# Altium footprint library debugger2.PcbLib: 18 footprints (part 1 of 2)
Each footprint in its own frame and in the unit in brackets; x right, y up, seen from the top. Pads: shape width x height; smd on the part's side, far side on the other; paste and mask are expansions set on the pad; w line width, h text height; cw(c..) or ccw(c..) is an arc to the next point about the centre after c.
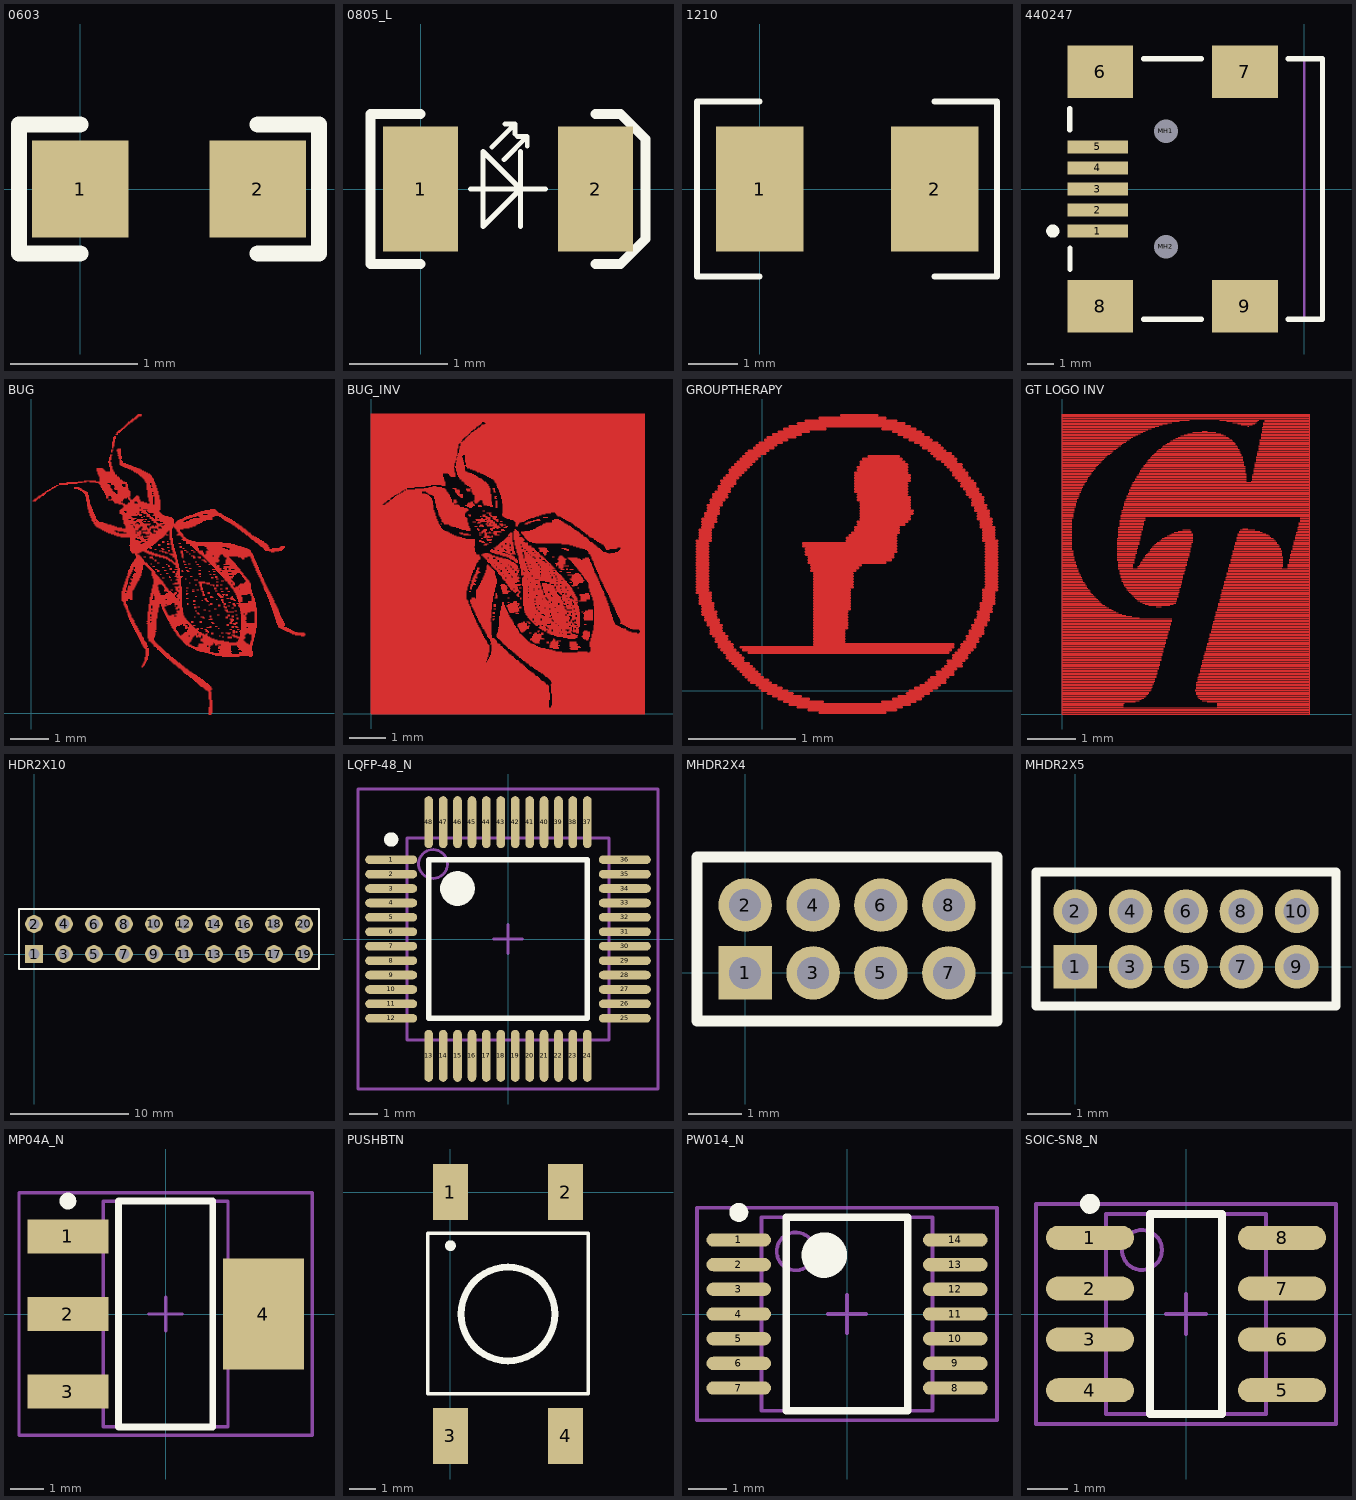
[diagram p0: the footprints below, top view; thin cyan lines are the x and y axes]

## 0603 [mil]
pads (2):
  rect 30x30 smd: 1(0,0) 2(55,0)
Top Overlay:
  lines w5: 0,-20 -19,-20 -19,20 0,20 ; 55,-20 74,-20 74,20 55,20

## 0805_L [mil]
pads (2):
  rect 30x50 smd: 1(0,0) 2(70,0)
Top Overlay:
  lines w1.97: 20,0 50,0 ; 28.54,16.73 37.76,25.95 ; 33.46,11.81 42.69,21.04 ; 33.83,25.95 37.76,25.95 ; 37.76,22.03 37.76,25.95 ; 38.76,21.04 42.69,21.04 ; 40,-15 40,0 ; 40,15 40,0 ; 42.69,17.1 42.69,21.04 ; 40,0 25,-15 25,15 40,0
  lines w4: 0,-30 -20,-30 -20,30 0,30 ; 70,-30 80,-30 ; 70,30 80,30 ; 80,-30 90,-20 ; 80,-30 90,-20 ; 80,30 90,20 ; 80,30 90,20 ; 90,-20 90,20

## 1210 [mil]
pads (2):
  rect 70x100 smd: 1(0,0) 2(140,0)
Top Overlay:
  lines w5: 0,-70 -50,-70 -50,70 0,70 ; 140,-70 190,-70 190,70 140,70

## 440247 [mm] "Connector; USB2.0, Type B, SM; 5 Position; Right Angle"
height 3.9
pads (11):
  rect 2.3x0.5 smd: 1(-7.85,-1.6) 2(-7.85,-0.8) 3(-7.85,0) 4(-7.85,0.8) 5(-7.85,1.6)
  rect 2.5x2 smd: 6(-7.75,4.45) 7(-2.25,4.45) 8(-7.75,-4.45) 9(-2.25,-4.45)
  round 0.6 hole 0.9 unplated: MH1(-5.25,2.2) MH2(-5.25,-2.2)
Top Overlay:
  circle w0.25: c-9.55,-1.6 r0.125
  lines w0.2: -8.9,-3.05 -8.9,-2.25 ; -8.9,2.25 -8.9,3.05 ; -6.1,-4.95 -3.9,-4.95 ; -6.1,4.95 -3.9,4.95 ; -0.6,-4.95 0.7,-4.95 0.7,4.95 -0.6,4.95
Mechanical 1:
  lines w0.1: 0,-4.95 0,4.95
  text "PCB Edge" at 0.432,-4.036 h0.25

## BUG [mm]
Top Layer:
  drawing of 1581 lines, arcs and shapes, not listed

## BUG_INV [mm]
Top Layer:
  drawing of 1912 lines, arcs and shapes, not listed

## GROUPTHERAPY [mm]
Top Layer:
  lines w0.025: -0.61,0.914 -0.483,0.914 ; -0.61,0.94 -0.508,0.94 ; -0.61,0.965 -0.508,0.965 ; -0.61,0.991 -0.508,0.991 ; -0.61,1.016 -0.508,1.016 ; -0.61,1.041 -0.508,1.041 ; -0.61,1.067 -0.508,1.067 ; -0.61,1.092 -0.508,1.092 ; -0.61,1.118 -0.508,1.118 ; -0.61,1.143 -0.508,1.143 ; -0.61,1.168 -0.508,1.168 ; -0.61,1.194 -0.508,1.194 ; -0.61,1.219 -0.508,1.219 ; -0.61,1.245 -0.508,1.245 ; -0.61,1.27 -0.508,1.27 ; -0.61,1.295 -0.508,1.295 ; -0.61,1.321 -0.508,1.321 ; -0.61,1.346 -0.508,1.346 ; -0.61,1.372 -0.508,1.372 ; -0.61,1.397 -0.483,1.397 ; -0.584,0.813 -0.457,0.813 ; -0.584,0.838 -0.483,0.838 ; -0.584,0.864 -0.483,0.864 ; -0.584,0.889 -0.483,0.889 ; -0.584,1.422 -0.483,1.422 ; -0.584,1.448 -0.483,1.448 ; -0.584,1.473 -0.483,1.473 ; -0.584,1.499 -0.483,1.499 ; -0.559,0.711 -0.432,0.711 ; -0.559,0.737 -0.432,0.737 ; -0.559,0.762 -0.457,0.762 ; -0.559,0.787 -0.457,0.787 ; -0.559,1.524 -0.457,1.524 ; -0.559,1.549 -0.457,1.549 ; -0.559,1.575 -0.432,1.575 ; -0.559,1.6 -0.432,1.6 ; -0.533,0.66 -0.406,0.66 ; -0.533,0.686 -0.432,0.686 ; -0.533,1.626 -0.432,1.626 ; -0.533,1.651 -0.406,1.651 ; -0.508,0.61 -0.381,0.61 ; -0.508,0.635 -0.406,0.635 ; -0.508,1.676 -0.406,1.676 ; -0.508,1.702 -0.406,1.702 ; -0.508,1.727 -0.381,1.727 ; -0.483,0.533 -0.356,0.533 ; -0.483,0.559 -0.381,0.559 ; -0.483,0.584 -0.381,0.584 ; -0.483,1.753 -0.381,1.753 ; -0.483,1.778 -0.356,1.778 ; -0.457,0.508 -0.33,0.508 ; -0.457,1.803 -0.33,1.803 ; -0.457,1.829 -0.33,1.829 ; -0.432,0.457 -0.305,0.457 ; -0.432,0.483 -0.33,0.483 ; -0.432,1.854 -0.305,1.854 ; -0.406,0.406 -0.279,0.406 ; -0.406,0.432 -0.279,0.432 ; -0.406,1.88 -0.305,1.88 ; -0.406,1.905 -0.279,1.905 ; -0.381,0.381 -0.254,0.381 ; -0.381,1.93 -0.254,1.93 ; -0.381,1.956 -0.254,1.956 ; -0.356,0.356 -0.229,0.356 ; -0.356,1.981 -0.229,1.981 ; -0.33,0.305 -0.178,0.305 ; -0.33,0.33 -0.203,0.33 ; -0.33,2.007 -0.203,2.007 ; -0.305,0.279 -0.178,0.279 ; -0.305,2.032 -0.178,2.032 ; -0.305,2.057 -0.152,2.057 ; -0.279,0.254 -0.127,0.254 ; -0.279,2.083 -0.127,2.083 ; -0.254,0.229 -0.102,0.229 ; -0.254,2.108 -0.102,2.108 ; -0.229,0.203 -0.076,0.203 ; -0.229,2.134 -0.076,2.134 ; -0.203,0.178 -0.051,0.178 ; -0.203,0.406 1.778,0.406 ; -0.203,2.159 -0.051,2.159 ; -0.178,0.152 -0.025,0.152 ; -0.178,0.381 1.753,0.381 ; -0.178,2.184 -0.025,2.184 ; -0.152,0.127 0,0.127 ; -0.152,2.21 0.025,2.21 ; -0.127,0.102 0.051,0.102 ; -0.127,0.356 1.727,0.356 ; -0.127,2.235 0.051,2.235 ; -0.102,0.076 0.076,0.076 ; -0.076,2.261 0.102,2.261 ; -0.051,0.051 0.127,0.051 ; -0.051,2.286 0.127,2.286 ; -0.025,0.025 0.178,0.025 ; -0.025,2.311 0.178,2.311 ; 0,0 0.229,0 ; 0.025,2.337 0.229,2.337 ; 0.051,-0.025 0.279,-0.025 ; 0.051,2.362 0.305,2.362 ; 0.102,-0.051 0.356,-0.051 ; 0.102,2.388 0.356,2.388 ; 0.152,-0.076 0.432,-0.076 ; 0.152,2.413 0.432,2.413 ; 0.203,-0.102 0.559,-0.102 ; 0.203,2.438 0.584,2.438 ; 0.254,-0.127 1.372,-0.127 ; 0.254,2.464 1.372,2.464 ; 0.33,-0.152 1.295,-0.152 ; 0.33,2.489 1.321,2.489 ; 0.381,1.346 1.245,1.346 ; 0.381,1.372 1.245,1.372 ; 0.406,1.27 1.219,1.27 ; 0.406,1.295 1.245,1.295 ; 0.406,1.321 1.245,1.321 ; 0.406,2.515 1.245,2.515 ; 0.432,-0.178 1.245,-0.178 ; 0.432,1.194 1.143,1.194 ; 0.432,1.219 1.194,1.219 ; 0.432,1.245 1.219,1.245 ; 0.457,1.118 0.864,1.118 ; 0.457,1.143 0.889,1.143 ; 0.457,1.168 0.914,1.168 ; 0.483,0.432 1.778,0.432 ; 0.483,0.457 0.762,0.457 ; 0.483,0.483 0.762,0.483 ; 0.483,0.508 0.762,0.508 ; 0.483,0.533 0.762,0.533 ; 0.483,0.559 0.762,0.559 ; 0.483,0.584 0.787,0.584 ; 0.483,0.61 0.787,0.61 ; 0.483,0.635 0.787,0.635 ; 0.483,0.66 0.787,0.66 ; 0.483,0.686 0.787,0.686 ; 0.483,0.711 0.787,0.711 ; 0.483,0.737 0.787,0.737 ; 0.483,0.762 0.813,0.762 ; 0.483,0.787 0.813,0.787 ; 0.483,0.813 0.813,0.813 ; 0.483,0.838 0.813,0.838 ; 0.483,0.864 0.813,0.864 ; 0.483,0.889 0.813,0.889 ; 0.483,0.914 0.813,0.914 ; 0.483,0.94 0.813,0.94 ; 0.483,0.965 0.838,0.965 ; 0.483,0.991 0.838,0.991 ; 0.483,1.016 0.838,1.016 ; 0.483,1.041 0.838,1.041 ; 0.483,1.067 0.838,1.067 ; 0.483,1.092 0.838,1.092 ; 0.533,-0.203 1.143,-0.203 ; 0.533,2.54 1.143,2.54 ; 0.737,2.565 1.067,2.565 ; 0.787,1.397 1.245,1.397 ; 0.787,1.422 1.245,1.422 ; 0.813,1.448 1.245,1.448 ; 0.838,1.473 1.27,1.473 ; 0.864,1.499 1.27,1.499 ; 0.864,1.524 1.27,1.524 ; 0.864,1.854 1.346,1.854 ; 0.864,1.88 1.346,1.88 ; 0.864,1.905 1.346,1.905 ; 0.864,1.93 1.346,1.93 ; 0.864,1.956 1.372,1.956 ; 0.864,1.981 1.372,1.981 ; 0.864,2.007 1.372,2.007 ; 0.864,2.032 1.346,2.032 ; 0.889,1.549 1.321,1.549 ; 0.889,1.575 1.346,1.575 ; 0.889,1.778 1.372,1.778 ; 0.889,1.803 1.372,1.803 ; 0.889,1.829 1.346,1.829 ; 0.889,2.057 1.346,2.057 ; 0.889,2.083 1.346,2.083 ; 0.914,1.6 1.372,1.6 ; 0.914,1.626 1.372,1.626 ; 0.914,1.651 1.397,1.651 ; 0.914,1.676 1.397,1.676 ; 0.914,1.702 1.372,1.702 ; 0.914,1.727 1.372,1.727 ; 0.914,1.753 1.372,1.753 ; 0.914,2.108 1.346,2.108 ; 0.914,2.134 1.321,2.134 ; 0.94,2.159 1.295,2.159 ; 0.991,2.184 1.27,2.184 ; 1.118,-0.102 1.422,-0.102 ; 1.118,2.438 1.422,2.438 ; 1.219,-0.076 1.473,-0.076 ; 1.219,2.413 1.473,2.413 ; 1.27,-0.051 1.499,-0.051 ; 1.27,2.388 1.499,2.388 ; 1.321,2.362 1.549,2.362 ; 1.346,-0.025 1.549,-0.025 ; 1.372,0 1.575,0 ; 1.372,2.337 1.575,2.337 ; 1.422,0.025 1.626,0.025 ; 1.422,2.311 1.626,2.311 ; 1.473,0.051 1.651,0.051 ; 1.473,2.286 1.651,2.286 ; 1.499,2.261 1.676,2.261 ; 1.524,0.076 1.702,0.076 ; 1.549,0.102 1.702,0.102 ; 1.549,2.235 1.702,2.235 ; 1.575,0.127 1.727,0.127 ; 1.575,2.21 1.753,2.21 ; 1.6,2.184 1.778,2.184 ; 1.626,0.152 1.778,0.152 ; 1.626,0.178 1.778,0.178 ; 1.626,2.159 1.803,2.159 ; 1.676,0.203 1.803,0.203 ; 1.676,2.134 1.803,2.134 ; 1.702,0.229 1.854,0.229 ; 1.702,2.108 1.854,2.108 ; 1.727,0.254 1.854,0.254 ; 1.727,0.279 1.88,0.279 ; 1.727,2.083 1.854,2.083 ; 1.753,2.057 1.88,2.057 ; 1.778,0.305 1.905,0.305 ; 1.778,0.33 1.905,0.33 ; 1.778,2.007 1.905,2.007 ; 1.778,2.032 1.905,2.032 ; 1.803,0.356 1.93,0.356 ; 1.803,1.981 1.93,1.981 ; 1.829,0.381 1.956,0.381 ; 1.829,1.956 1.956,1.956 ; 1.854,0.406 1.981,0.406 ; 1.854,0.432 1.981,0.432 ; 1.854,1.905 1.981,1.905 ; 1.854,1.93 1.981,1.93 ; 1.88,0.457 2.007,0.457 ; 1.88,1.88 2.007,1.88 ; 1.905,0.483 2.007,0.483 ; 1.905,0.508 2.032,0.508 ; 1.905,1.829 2.032,1.829 ; 1.905,1.854 2.007,1.854 ; 1.93,0.533 2.057,0.533 ; 1.93,0.559 2.057,0.559 ; 1.93,1.803 2.057,1.803 ; 1.956,0.584 2.057,0.584 ; 1.956,0.61 2.083,0.61 ; 1.956,1.727 2.083,1.727 ; 1.956,1.753 2.057,1.753 ; 1.956,1.778 2.057,1.778 ; 1.981,0.635 2.083,0.635 ; 1.981,0.66 2.108,0.66 ; 1.981,1.676 2.108,1.676 ; 1.981,1.702 2.083,1.702 ; 2.007,0.686 2.108,0.686 ; 2.007,0.711 2.108,0.711 ; 2.007,0.737 2.134,0.737 ; 2.007,1.6 2.134,1.6 ; 2.007,1.626 2.108,1.626 ; 2.007,1.651 2.108,1.651 ; 2.032,0.762 2.134,0.762 ; 2.032,0.787 2.134,0.787 ; 2.032,0.813 2.159,0.813 ; 2.032,1.524 2.159,1.524 ; 2.032,1.549 2.134,1.549 ; 2.032,1.575 2.134,1.575 ; 2.057,0.838 2.159,0.838 ; 2.057,0.864 2.159,0.864 ; 2.057,0.889 2.159,0.889 ; 2.057,0.914 2.159,0.914 ; 2.057,0.94 2.184,0.94 ; 2.057,1.397 2.184,1.397 ; 2.057,1.422 2.159,1.422 ; 2.057,1.448 2.159,1.448 ; 2.057,1.473 2.159,1.473 ; 2.057,1.499 2.159,1.499 ; 2.083,0.965 2.184,0.965 ; 2.083,0.991 2.184,0.991 ; 2.083,1.016 2.184,1.016 ; 2.083,1.041 2.184,1.041 ; 2.083,1.067 2.184,1.067 ; 2.083,1.092 2.184,1.092 ; 2.083,1.118 2.184,1.118 ; 2.083,1.143 2.184,1.143 ; 2.083,1.168 2.184,1.168 ; 2.083,1.194 2.184,1.194 ; 2.083,1.219 2.184,1.219 ; 2.083,1.245 2.184,1.245 ; 2.083,1.27 2.184,1.27 ; 2.083,1.295 2.184,1.295 ; 2.083,1.321 2.184,1.321 ; 2.083,1.346 2.184,1.346 ; 2.083,1.372 2.184,1.372

## GT LOGO INV [mm] "inverted Logo"
Top Layer:
  lines w0.025: 0,0.025 5.156,0.025 ; 0,0.051 5.156,0.051 ; 0,0.076 5.156,0.076 ; 0,0.102 5.156,0.102 ; 0,0.127 5.156,0.127 ; 0,0.152 1.27,0.152 ; 0,0.178 1.27,0.178 ; 0,0.203 1.27,0.203 ; 0,0.229 1.295,0.229 ; 0,0.254 1.524,0.254 ; 0,0.279 1.6,0.279 ; 0,0.305 1.651,0.305 ; 0,0.33 1.702,0.33 ; 0,0.356 1.727,0.356 ; 0,0.381 1.753,0.381 ; 0,0.406 1.778,0.406 ; 0,0.432 1.803,0.432 ; 0,0.457 1.803,0.457 ; 0,0.483 1.829,0.483 ; 0,0.508 1.854,0.508 ; 0,0.533 1.854,0.533 ; 0,0.559 1.88,0.559 ; 0,0.584 1.88,0.584 ; 0,0.61 1.88,0.61 ; 0,0.635 1.905,0.635 ; 0,0.66 1.905,0.66 ; 0,0.686 1.93,0.686 ; 0,0.711 1.93,0.711 ; 0,0.737 1.93,0.737 ; 0,0.762 1.956,0.762 ; 0,0.787 1.956,0.787 ; 0,0.813 1.956,0.813 ; 0,0.838 1.981,0.838 ; 0,0.864 1.981,0.864 ; 0,0.889 1.981,0.889 ; 0,0.914 1.981,0.914 ; 0,0.94 2.007,0.94 ; 0,0.965 2.007,0.965 ; 0,0.991 2.007,0.991 ; 0,1.016 2.032,1.016 ; 0,1.041 2.032,1.041 ; 0,1.067 2.032,1.067 ; 0,1.092 2.032,1.092 ; 0,1.118 2.057,1.118 ; 0,1.143 2.057,1.143 ; 0,1.168 2.057,1.168 ; 0,1.194 2.057,1.194 ; 0,1.219 2.083,1.219 ; 0,1.245 2.083,1.245 ; 0,1.27 2.083,1.27 ; 0,1.295 2.108,1.295 ; 0,1.321 2.108,1.321 ; 0,1.346 2.108,1.346 ; 0,1.372 2.108,1.372 ; 0,1.397 2.134,1.397 ; 0,1.422 2.134,1.422 ; 0,1.448 2.134,1.448 ; 0,1.473 2.159,1.473 ; 0,1.499 2.159,1.499 ; 0,1.524 2.159,1.524 ; 0,1.549 2.159,1.549 ; 0,1.575 2.184,1.575 ; 0,1.6 2.184,1.6 ; 0,1.626 2.184,1.626 ; 0,1.651 2.184,1.651 ; 0,1.676 2.21,1.676 ; 0,1.702 2.21,1.702 ; 0,1.727 2.21,1.727 ; 0,1.753 2.235,1.753 ; 0,1.778 2.235,1.778 ; 0,1.803 2.235,1.803 ; 0,1.829 2.235,1.829 ; 0,1.854 2.261,1.854 ; 0,1.88 2.261,1.88 ; 0,1.905 2.261,1.905 ; 0,1.93 2.286,1.93 ; 0,1.956 2.286,1.956 ; 0,1.981 2.286,1.981 ; 0,2.007 1.6,2.007 ; 0,2.032 1.448,2.032 ; 0,2.057 1.321,2.057 ; 0,2.083 1.245,2.083 ; 0,2.108 1.168,2.108 ; 0,2.134 1.118,2.134 ; 0,2.159 1.067,2.159 ; 0,2.184 1.016,2.184 ; 0,2.21 0.965,2.21 ; 0,2.235 0.914,2.235 ; 0,2.261 0.889,2.261 ; 0,2.286 0.838,2.286 ; 0,2.311 0.813,2.311 ; 0,2.337 0.787,2.337 ; 0,2.362 0.762,2.362 ; 0,2.388 0.737,2.388 ; 0,2.413 0.711,2.413 ; 0,2.438 0.686,2.438 ; 0,2.464 0.66,2.464 ; 0,2.489 0.635,2.489 ; 0,2.515 0.61,2.515 ; 0,2.54 0.584,2.54 ; 0,2.565 0.584,2.565 ; 0,2.591 0.559,2.591 ; 0,2.616 0.533,2.616 ; 0,2.642 0.508,2.642 ; 0,2.667 0.508,2.667 ; 0,2.692 0.483,2.692 ; 0,2.718 0.483,2.718 ; 0,2.743 0.457,2.743 ; 0,2.769 0.432,2.769 ; 0,2.794 0.432,2.794 ; 0,2.819 0.406,2.819 ; 0,2.845 0.406,2.845 ; 0,2.87 0.381,2.87 ; 0,2.896 0.381,2.896 ; 0,2.921 0.356,2.921 ; 0,2.946 0.356,2.946 ; 0,2.972 0.33,2.972 ; 0,2.997 0.33,2.997 ; 0,3.023 0.33,3.023 ; 0,3.048 0.305,3.048 ; 0,3.073 0.305,3.073 ; 0,3.099 0.305,3.099 ; 0,3.124 0.279,3.124 ; 0,3.15 0.279,3.15 ; 0,3.175 0.279,3.175 ; 0,3.2 0.254,3.2 ; 0,3.226 0.254,3.226 ; 0,3.251 0.254,3.251 ; 0,3.277 0.254,3.277 ; 0,3.302 0.229,3.302 ; 0,3.327 0.229,3.327 ; 0,3.353 0.229,3.353 ; 0,3.378 0.229,3.378 ; 0,3.404 0.229,3.404 ; 0,3.429 0.203,3.429 ; 0,3.454 0.203,3.454 ; 0,3.48 0.203,3.48 ; 0,3.505 0.203,3.505 ; 0,3.531 0.203,3.531 ; 0,3.556 0.203,3.556 ; 0,3.581 0.203,3.581 ; 0,3.607 0.203,3.607 ; 0,3.632 0.203,3.632 ; 0,3.658 0.203,3.658 ; 0,3.683 0.203,3.683 ; 0,3.708 0.203,3.708 ; 0,3.734 0.203,3.734 ; 0,3.759 0.203,3.759 ; 0,3.785 0.203,3.785 ; 0,3.81 0.203,3.81 ; 0,3.835 0.203,3.835 ; 0,3.861 0.203,3.861 ; 0,3.886 0.203,3.886 ; 0,3.912 0.203,3.912 ; 0,3.937 0.203,3.937 ; 0,3.962 0.203,3.962 ; 0,3.988 0.203,3.988 ; 0,4.013 0.203,4.013 ; 0,4.039 0.203,4.039 ; 0,4.064 0.203,4.064 ; 0,4.089 0.229,4.089 ; 0,4.115 0.229,4.115 ; 0,4.14 0.229,4.14 ; 0,4.166 0.229,4.166 ; 0,4.191 0.229,4.191 ; 0,4.216 0.254,4.216 ; 0,4.242 0.254,4.242 ; 0,4.267 0.254,4.267 ; 0,4.293 0.254,4.293 ; 0,4.318 0.279,4.318 ; 0,4.343 0.279,4.343 ; 0,4.369 0.279,4.369 ; 0,4.394 0.279,4.394 ; 0,4.42 0.305,4.42 ; 0,4.445 0.305,4.445 ; 0,4.47 0.305,4.47 ; 0,4.496 0.33,4.496 ; 0,4.521 0.33,4.521 ; 0,4.547 0.356,4.547 ; 0,4.572 0.356,4.572 ; 0,4.597 0.356,4.597 ; 0,4.623 0.381,4.623 ; 0,4.648 0.381,4.648 ; 0,4.674 0.406,4.674 ; 0,4.699 0.406,4.699 ; 0,4.724 0.432,4.724 ; 0,4.75 0.432,4.75 ; 0,4.775 0.457,4.775 ; 0,4.801 0.457,4.801 ; 0,4.826 0.483,4.826 ; 0,4.851 0.508,4.851 ; 0,4.877 0.508,4.877 ; 0,4.902 0.533,4.902 ; 0,4.928 0.533,4.928 ; 0,4.953 0.559,4.953 ; 0,4.978 0.584,4.978 ; 0,5.004 0.61,5.004 ; 0,5.029 0.61,5.029 ; 0,5.055 0.635,5.055 ; 0,5.08 0.66,5.08 ; 0,5.105 0.686,5.105 ; 0,5.131 0.686,5.131 ; 0,5.156 0.711,5.156 ; 0,5.182 0.737,5.182 ; 0,5.207 0.762,5.207 ; 0,5.232 0.787,5.232 ; 0,5.258 0.813,5.258 ; 0,5.283 0.838,5.283 ; 0,5.309 0.864,5.309 ; 0,5.334 0.889,5.334 ; 0,5.359 0.914,5.359 ; 0,5.385 0.94,5.385 ; 0,5.41 0.991,5.41 ; 0,5.436 1.016,5.436 ; 0,5.461 1.041,5.461 ; 0,5.486 1.067,5.486 ; 0,5.512 1.118,5.512 ; 0,5.537 1.143,5.537 ; 0,5.563 1.168,5.563 ; 0,5.588 1.219,5.588 ; 0,5.613 1.245,5.613 ; 0,5.639 1.27,5.639 ; 0,5.664 1.321,5.664 ; 0,5.69 1.346,5.69 ; 0,5.715 1.397,5.715 ; 0,5.74 1.422,5.74 ; 0,5.766 1.473,5.766 ; 0,5.791 1.524,5.791 ; 0,5.817 1.575,5.817 ; 0,5.842 1.626,5.842 ; 0,5.867 1.676,5.867 ; 0,5.893 1.727,5.893 ; 0,5.918 1.778,5.918 ; 0,5.944 1.854,5.944 ; 0,5.969 1.93,5.969 ; 0,5.994 2.007,5.994 ; 0,6.02 2.083,6.02 ; 0,6.045 2.184,6.045 ; 0,6.071 2.286,6.071 ; 0,6.096 2.438,6.096 ; 0,6.121 2.642,6.121 ; 0,6.147 5.156,6.147 ; 0,6.172 5.156,6.172 ; 0,6.198 5.156,6.198 ; 0,6.223 5.156,6.223 ; 1.143,3.2 1.499,3.2 ; 1.143,3.226 1.499,3.226 ; 1.143,3.251 1.524,3.251 ; 1.143,3.277 1.524,3.277 ; 1.143,3.302 1.524,3.302 ; 1.143,3.327 1.524,3.327 ; 1.143,3.353 1.549,3.353 ; 1.143,3.378 1.549,3.378 ; 1.143,3.404 1.549,3.404 ; 1.143,3.429 1.549,3.429 ; 1.143,3.454 1.575,3.454 ; 1.143,3.48 1.575,3.48 ; 1.143,3.505 1.575,3.505 ; 1.143,3.531 1.6,3.531 ; 1.143,3.556 1.6,3.556 ; 1.143,3.581 1.6,3.581 ; 1.143,3.607 1.6,3.607 ; 1.143,3.632 1.626,3.632 ; 1.143,3.658 1.626,3.658 ; 1.168,3.023 2.565,3.023 ; 1.168,3.048 1.473,3.048 ; 1.168,3.073 1.473,3.073 ; 1.168,3.099 1.473,3.099 ; 1.168,3.124 1.473,3.124 ; 1.168,3.15 1.499,3.15 ; 1.168,3.175 1.499,3.175 ; 1.168,3.683 1.626,3.683 ; 1.168,3.708 1.626,3.708 ; 1.168,3.734 1.651,3.734 ; 1.168,3.759 1.651,3.759 ; 1.168,3.785 1.651,3.785 ; 1.168,3.81 1.651,3.81 ; 1.168,3.835 1.676,3.835 ; 1.168,3.861 1.676,3.861 ; 1.168,3.886 1.676,3.886 ; 1.194,2.921 2.54,2.921 ; 1.194,2.946 2.54,2.946 ; 1.194,2.972 2.54,2.972 ; 1.194,2.997 2.565,2.997 ; 1.194,3.912 1.676,3.912 ; 1.194,3.937 1.702,3.937 ; 1.194,3.962 1.702,3.962 ; 1.194,3.988 1.702,3.988 ; 1.194,4.013 1.702,4.013 ; 1.194,4.039 1.727,4.039 ; 1.219,2.845 2.515,2.845 ; 1.219,2.87 2.515,2.87 ; 1.219,2.896 2.515,2.896 ; 1.219,4.064 1.727,4.064 ; 1.219,4.089 1.727,4.089 ; 1.219,4.115 5.156,4.115 ; 1.219,4.14 5.156,4.14 ; 1.245,2.769 2.489,2.769 ; 1.245,2.794 2.489,2.794 ; 1.245,2.819 2.515,2.819 ; 1.245,4.166 5.156,4.166 ; 1.245,4.191 5.156,4.191 ; 1.245,4.216 5.156,4.216 ; 1.245,4.242 5.156,4.242 ; 1.27,2.718 2.489,2.718 ; 1.27,2.743 2.489,2.743 ; 1.27,4.267 5.156,4.267 ; 1.27,4.293 5.156,4.293 ; 1.27,4.318 5.156,4.318 ; 1.295,2.667 2.464,2.667 ; 1.295,2.692 2.464,2.692 ; 1.295,4.343 5.156,4.343 ; 1.295,4.369 5.156,4.369 ; 1.295,4.394 5.156,4.394 ; 1.295,4.42 5.156,4.42 ; 1.321,2.642 2.464,2.642 ; 1.321,4.445 5.156,4.445 ; 1.321,4.47 5.156,4.47 ; 1.346,2.591 2.438,2.591 ; 1.346,2.616 2.438,2.616 ; 1.346,4.496 5.156,4.496 ; 1.346,4.521 5.156,4.521 ; 1.346,4.547 5.156,4.547 ; 1.372,2.565 2.438,2.565 ; 1.372,4.572 5.156,4.572 ; 1.372,4.597 5.156,4.597 ; 1.397,2.54 2.438,2.54 ; 1.397,4.623 5.156,4.623 ; 1.397,4.648 5.156,4.648 ; 1.397,4.674 5.156,4.674 ; 1.422,2.515 2.413,2.515 ; 1.422,4.699 5.156,4.699 ; 1.422,4.724 5.156,4.724 ; 1.448,2.489 2.413,2.489 ; 1.448,4.75 5.156,4.75 ; 1.448,4.775 5.156,4.775 ; 1.473,2.464 2.413,2.464 ; 1.473,4.801 5.156,4.801 ; 1.473,4.826 5.156,4.826 ; 1.499,2.438 2.413,2.438 ; 1.499,4.851 3.835,4.851 ; 1.524,2.413 2.388,2.413 ; 1.524,4.877 3.835,4.877 ; 1.524,4.902 3.835,4.902 ; 1.549,2.388 2.388,2.388 ; 1.549,4.928 3.835,4.928 ; 1.549,4.953 3.835,4.953 ; 1.575,2.362 2.388,2.362 ; 1.575,3.048 2.565,3.048 ; 1.575,3.073 2.565,3.073 ; 1.575,4.978 3.835,4.978 ; 1.6,3.099 2.591,3.099 ; 1.6,5.004 3.835,5.004 ; 1.6,5.029 3.81,5.029 ; 1.626,2.337 2.362,2.337 ; 1.626,3.124 2.591,3.124 ; 1.626,3.15 2.591,3.15 ; 1.626,5.055 3.81,5.055 ; 1.626,5.08 3.81,5.08 ; 1.651,3.175 2.591,3.175 ; 1.651,5.105 3.81,5.105 ; 1.676,2.311 2.362,2.311 ; 1.676,3.2 2.616,3.2 ; 1.676,3.226 2.616,3.226 ; 1.676,5.131 3.81,5.131 ; 1.702,3.251 2.616,3.251 ; 1.702,5.156 3.81,5.156 ; 1.702,5.182 3.785,5.182 ; 1.727,2.286 2.311,2.286 ; 1.727,3.277 2.642,3.277 ; 1.727,3.302 2.642,3.302 ; 1.727,5.207 3.785,5.207 ; 1.753,3.327 2.642,3.327 ; 1.753,5.232 3.785,5.232 ; 1.778,3.353 2.642,3.353 ; 1.778,5.258 3.785,5.258 ; 1.778,5.283 3.759,5.283 ; 1.803,2.261 2.235,2.261 ; 1.803,3.378 2.667,3.378 ; 1.803,5.309 3.759,5.309 ; 1.829,3.404 2.667,3.404 ; 1.829,3.429 2.667,3.429 ; 1.829,5.334 3.759,5.334 ; 1.854,3.454 2.667,3.454 ; 1.854,5.359 3.759,5.359 ; 1.88,3.48 2.692,3.48 ; 1.88,5.385 3.734,5.385 ; 1.905,3.505 2.692,3.505 ; 1.905,5.41 3.734,5.41 ; 1.93,3.531 2.692,3.531 ; 1.93,5.436 3.708,5.436 ; 1.956,2.235 2.057,2.235 ; 1.956,3.556 2.692,3.556 ; 1.956,5.461 3.708,5.461 ; 1.981,3.581 2.718,3.581 ; 1.981,5.486 3.683,5.486 ; 2.007,5.512 3.683,5.512 ; 2.032,3.607 2.718,3.607 ; 2.057,3.632 2.718,3.632 ; 2.057,5.537 3.658,5.537 ; 2.083,3.658 2.718,3.658 ; 2.083,5.563 3.658,5.563 ; 2.108,5.588 3.632,5.588 ; 2.134,3.683 2.718,3.683 ; 2.159,5.613 3.607,5.613 ; 2.184,3.708 2.718,3.708 ; 2.184,5.639 3.607,5.639 ; 2.235,3.734 2.718,3.734 ; 2.235,5.664 3.581,5.664 ; 2.261,5.69 3.556,5.69 ; 2.286,3.759 2.718,3.759 ; 2.311,5.715 3.531,5.715 ; 2.337,3.785 2.692,3.785 ; 2.362,5.74 3.48,5.74 ; 2.413,3.81 2.692,3.81 ; 2.413,5.766 3.454,5.766 ; 2.464,5.791 3.404,5.791 ; 2.515,3.835 2.667,3.835 ; 2.54,5.817 3.353,5.817 ; 2.616,5.842 3.302,5.842 ; 2.718,5.867 3.2,5.867 ; 2.769,0.483 5.156,0.483 ; 2.769,0.508 5.156,0.508 ; 2.794,0.406 5.156,0.406 ; 2.794,0.432 5.156,0.432 ; 2.794,0.457 5.156,0.457 ; 2.794,0.533 5.156,0.533 ; 2.794,0.559 5.156,0.559 ; 2.794,0.584 5.156,0.584 ; 2.794,0.61 5.156,0.61 ; 2.794,0.635 5.156,0.635 ; 2.794,0.66 5.156,0.66 ; 2.819,0.356 5.156,0.356 ; 2.819,0.381 5.156,0.381 ; 2.819,0.686 5.156,0.686 ; 2.819,0.711 5.156,0.711 ; 2.819,0.737 5.156,0.737 ; 2.819,0.762 5.156,0.762 ; 2.845,0.33 5.156,0.33 ; 2.845,0.787 5.156,0.787 ; 2.845,0.813 5.156,0.813 ; 2.845,0.838 5.156,0.838 ; 2.87,0.305 5.156,0.305 ; 2.87,0.864 5.156,0.864 ; 2.87,0.889 5.156,0.889 ; 2.87,0.914 5.156,0.914 ; 2.87,0.94 5.156,0.94 ; 2.896,0.965 5.156,0.965 ; 2.896,0.991 5.156,0.991 ; 2.896,1.016 5.156,1.016 ; 2.921,0.279 5.156,0.279 ; 2.921,1.041 5.156,1.041 ; 2.921,1.067 5.156,1.067 ; 2.921,1.092 5.156,1.092 ; 2.921,1.118 5.156,1.118 ; 2.921,5.893 3.023,5.893 ; 2.946,1.143 5.156,1.143 ; 2.946,1.168 5.156,1.168 ; 2.946,1.194 5.156,1.194 ; 2.946,1.219 5.156,1.219 ; 2.972,1.245 5.156,1.245 ; 2.972,1.27 5.156,1.27 ; 2.972,1.295 5.156,1.295 ; 2.997,1.321 5.156,1.321 ; 2.997,1.346 5.156,1.346 ; 2.997,1.372 5.156,1.372 ; 2.997,1.397 5.156,1.397 ; 3.023,0.254 5.156,0.254 ; 3.023,1.422 5.156,1.422 ; 3.023,1.448 5.156,1.448 ; 3.023,1.473 5.156,1.473 ; 3.048,1.499 5.156,1.499 ; 3.048,1.524 5.156,1.524 ; 3.048,1.549 5.156,1.549 ; 3.048,1.575 5.156,1.575 ; 3.073,1.6 5.156,1.6 ; 3.073,1.626 5.156,1.626 ; 3.073,1.651 5.156,1.651 ; 3.073,1.676 5.156,1.676 ; 3.099,1.702 5.156,1.702 ; 3.099,1.727 5.156,1.727 ; 3.099,1.753 5.156,1.753 ; 3.124,1.778 5.156,1.778 ; 3.124,1.803 5.156,1.803 ; 3.124,1.829 5.156,1.829 ; 3.124,1.854 5.156,1.854 ; 3.15,1.88 5.156,1.88 ; 3.15,1.905 5.156,1.905 ; 3.15,1.93 5.156,1.93 ; 3.175,1.956 5.156,1.956 ; 3.175,1.981 5.156,1.981 ; 3.175,2.007 5.156,2.007 ; 3.175,2.032 5.156,2.032 ; 3.2,2.057 5.156,2.057 ; 3.2,2.083 5.156,2.083 ; 3.2,2.108 5.156,2.108 ; 3.2,2.134 5.156,2.134 ; 3.226,0.152 5.156,0.152 ; 3.226,0.178 5.156,0.178 ; 3.226,0.203 5.156,0.203 ; 3.226,0.229 5.156,0.229 ; 3.226,2.159 5.156,2.159 ; 3.226,2.184 5.156,2.184 ; 3.226,2.21 5.156,2.21 ; 3.251,2.235 5.156,2.235 ; 3.251,2.261 5.156,2.261 ; 3.251,2.286 5.156,2.286 ; 3.251,2.311 5.156,2.311 ; 3.277,2.337 5.156,2.337 ; 3.277,2.362 5.156,2.362 ; 3.277,2.388 5.156,2.388 ; 3.277,6.121 4.089,6.121 ; 3.302,2.413 5.156,2.413 ; 3.302,2.438 5.156,2.438 ; 3.302,2.464 5.156,2.464 ; 3.302,2.489 5.156,2.489 ; 3.327,2.515 5.156,2.515 ; 3.327,2.54 5.156,2.54 ; 3.327,2.565 5.156,2.565 ; 3.327,2.591 5.156,2.591 ; 3.353,2.616 5.156,2.616 ; 3.353,2.642 5.156,2.642 ; 3.353,2.667 5.156,2.667 ; 3.378,2.692 5.156,2.692 ; 3.378,2.718 5.156,2.718 ; 3.378,2.743 5.156,2.743 ; 3.378,2.769 5.156,2.769 ; 3.404,2.794 5.156,2.794 ; 3.404,2.819 5.156,2.819 ; 3.404,2.845 5.156,2.845 ; 3.429,2.87 5.156,2.87 ; 3.429,2.896 5.156,2.896 ; 3.429,2.921 5.156,2.921 ; 3.429,2.946 5.156,2.946 ; 3.429,6.096 4.064,6.096 ; 3.454,2.972 5.156,2.972 ; 3.454,2.997 5.156,2.997 ; 3.454,3.023 5.156,3.023 ; 3.454,3.048 4.572,3.048 ; 3.48,3.073 4.597,3.073 ; 3.48,3.099 4.597,3.099 ; 3.48,3.124 4.597,3.124 ; 3.505,3.15 4.597,3.15 ; 3.505,3.175 4.597,3.175 ; 3.505,3.2 4.597,3.2 ; 3.505,3.226 4.597,3.226 ; 3.531,3.251 4.597,3.251 ; 3.531,3.277 4.597,3.277 ; 3.531,3.302 4.572,3.302 ; 3.556,3.327 4.572,3.327 ; 3.556,3.353 4.572,3.353 ; 3.556,3.378 4.572,3.378 ; 3.556,3.404 4.572,3.404 ; 3.556,6.071 4.039,6.071 ; 3.581,3.429 4.547,3.429 ; 3.581,3.454 4.547,3.454 ; 3.581,3.48 4.521,3.48 ; 3.581,3.505 4.521,3.505 ; 3.607,3.531 4.496,3.531 ; 3.607,3.556 4.47,3.556 ; 3.607,3.581 4.47,3.581 ; 3.632,3.607 4.445,3.607 ; 3.632,3.632 4.42,3.632 ; 3.632,3.658 4.394,3.658 ; 3.632,3.683 4.343,3.683 ; 3.658,3.708 4.318,3.708 ; 3.658,3.734 4.293,3.734 ; 3.658,3.759 4.242,3.759 ; 3.658,6.045 4.013,6.045 ; 3.683,3.785 4.166,3.785 ; 3.683,3.81 4.115,3.81 ; 3.708,3.835 4.013,3.835 ; 3.734,6.02 3.962,6.02 ; 3.759,3.861 3.861,3.861 ; 3.861,5.994 3.886,5.994 ; 3.937,4.851 5.156,4.851 ; 3.962,4.877 5.156,4.877 ; 3.962,4.902 5.156,4.902 ; 3.962,4.928 5.156,4.928 ; 3.962,4.953 5.156,4.953 ; 3.962,4.978 5.156,4.978 ; 3.988,5.004 5.156,5.004 ; 3.988,5.029 5.156,5.029 ; 3.988,5.055 5.156,5.055 ; 3.988,5.08 5.156,5.08 ; 3.988,5.105 5.156,5.105 ; 4.013,5.131 5.156,5.131 ; 4.013,5.156 5.156,5.156 ; 4.013,5.182 5.156,5.182 ; 4.013,5.207 5.156,5.207 ; 4.013,5.232 5.156,5.232 ; 4.039,5.258 5.156,5.258 ; 4.039,5.283 5.156,5.283 ; 4.039,5.309 5.156,5.309 ; 4.039,5.334 5.156,5.334 ; 4.039,5.359 5.156,5.359 ; 4.064,5.385 5.156,5.385 ; 4.064,5.41 5.156,5.41 ; 4.064,5.436 5.156,5.436 ; 4.064,5.461 5.156,5.461 ; 4.089,5.486 5.156,5.486 ; 4.089,5.512 5.156,5.512 ; 4.089,5.537 5.156,5.537 ; 4.089,5.563 5.156,5.563 ; 4.089,5.588 5.156,5.588 ; 4.115,5.613 5.156,5.613 ; 4.115,5.639 5.156,5.639 ; 4.115,5.664 5.156,5.664 ; 4.115,5.69 5.156,5.69 ; 4.115,5.715 5.156,5.715 ; 4.14,5.74 5.156,5.74 ; 4.14,5.766 5.156,5.766 ; 4.14,5.791 5.156,5.791 ; 4.14,5.817 5.156,5.817 ; 4.14,5.842 5.156,5.842 ; 4.166,5.867 5.156,5.867 ; 4.166,5.893 5.156,5.893 ; 4.166,5.918 5.156,5.918 ; 4.166,5.944 5.156,5.944 ; 4.166,5.969 5.156,5.969 ; 4.191,5.994 5.156,5.994 ; 4.191,6.02 5.156,6.02 ; 4.191,6.045 5.156,6.045 ; 4.191,6.071 5.156,6.071 ; 4.216,6.096 5.156,6.096 ; 4.216,6.121 5.156,6.121 ; 4.699,3.048 5.156,3.048 ; 4.699,3.073 5.156,3.073 ; 4.699,3.099 5.156,3.099 ; 4.699,3.124 5.156,3.124 ; 4.724,3.15 5.156,3.15 ; 4.724,3.175 5.156,3.175 ; 4.724,3.2 5.156,3.2 ; 4.724,3.226 5.156,3.226 ; 4.75,3.251 5.156,3.251 ; 4.75,3.277 5.156,3.277 ; 4.75,3.302 5.156,3.302 ; 4.75,3.327 5.156,3.327 ; 4.775,3.353 5.156,3.353 ; 4.775,3.378 5.156,3.378 ; 4.775,3.404 5.156,3.404 ; 4.801,3.429 5.156,3.429 ; 4.801,3.454 5.156,3.454 ; 4.801,3.48 5.156,3.48 ; 4.801,3.505 5.156,3.505 ; 4.826,3.531 5.156,3.531 ; 4.826,3.556 5.156,3.556 ; 4.826,3.581 5.156,3.581 ; 4.826,3.607 5.156,3.607 ; 4.851,3.632 5.156,3.632 ; 4.851,3.658 5.156,3.658 ; 4.851,3.683 5.156,3.683 ; 4.851,3.708 5.156,3.708 ; 4.877,3.734 5.156,3.734 ; 4.877,3.759 5.156,3.759 ; 4.877,3.785 5.156,3.785 ; 4.902,3.81 5.156,3.81 ; 4.902,3.835 5.156,3.835 ; 4.902,3.861 5.156,3.861 ; 4.902,3.886 5.156,3.886 ; 4.928,3.912 5.156,3.912 ; 4.928,3.937 5.156,3.937 ; 4.928,3.962 5.156,3.962 ; 4.928,3.988 5.156,3.988 ; 4.953,4.013 5.156,4.013 ; 4.953,4.039 5.156,4.039 ; 4.953,4.064 5.156,4.064 ; 4.953,4.089 5.156,4.089 ; 0,0 5.156,0 5.156,6.248 0,6.248 0,0

## HDR2X10 [mm] "Connector; Header; 10x2 Position"
pads (20):
  rect 1.5x1.5 hole 0.9: 1(0,0)
  round 1.5 hole 0.9: 2(0,2.54) 3(2.54,0) 4(2.54,2.54) 5(5.08,0) 6(5.08,2.54) 7(7.62,0) 8(7.62,2.54) 9(10.16,0) 10(10.16,2.54) 11(12.7,0) 12(12.7,2.54) 13(15.24,0) 14(15.24,2.54) 15(17.78,0) 16(17.78,2.54) 17(20.32,0) 18(20.32,2.54) 19(22.86,0) 20(22.86,2.54)
Top Overlay:
  lines w0.2: -1.27,-1.27 0.635,-1.27 24.13,-1.27 24.13,3.81 0.635,3.81 -1.27,3.81 -1.27,-1.27

## LQFP-48_N [mm] "Thin QFP, 48-Leads, Body 7x7mm, Pitch 0.5mm, IPC Medium Density"
height 1.6
pads (48):
  oval 1.8x0.3 smd: 1(-4.05,2.75) 2(-4.05,2.25) 3(-4.05,1.75) 4(-4.05,1.25) 5(-4.05,0.75) 6(-4.05,0.25) 7(-4.05,-0.25) 8(-4.05,-0.75) 9(-4.05,-1.25) 10(-4.05,-1.75) 11(-4.05,-2.25) 12(-4.05,-2.75) 25(4.05,-2.75) 26(4.05,-2.25) 27(4.05,-1.75) 28(4.05,-1.25) 29(4.05,-0.75) 30(4.05,-0.25) 31(4.05,0.25) 32(4.05,0.75) 33(4.05,1.25) 34(4.05,1.75) 35(4.05,2.25) 36(4.05,2.75)
  oval 0.3x1.8 smd: 13(-2.75,-4.05) 14(-2.25,-4.05) 15(-1.75,-4.05) 16(-1.25,-4.05) 17(-0.75,-4.05) 18(-0.25,-4.05) 19(0.25,-4.05) 20(0.75,-4.05) 21(1.25,-4.05) 22(1.75,-4.05) 23(2.25,-4.05) 24(2.75,-4.05) 37(2.75,4.05) 38(2.25,4.05) 39(1.75,4.05) 40(1.25,4.05) 41(0.75,4.05) 42(0.25,4.05) 43(-0.25,4.05) 44(-0.75,4.05) 45(-1.25,4.05) 46(-1.75,4.05) 47(-2.25,4.05) 48(-2.75,4.05)
Top Overlay:
  circle w0.25: c-4.05,3.45 r0.125
  circle w0.6: c-1.75,1.75 r0.3
  lines w0.2: -2.75,-2.75 -2.75,2.75 2.75,2.75 2.75,-2.75 -2.75,-2.75
Mechanical 13:
  circle w0.1: c-2.6,2.6 r0.5
  lines w0.1: -3.5,-3.5 -3.5,3.5 3.5,3.5 3.5,-3.5 -3.5,-3.5
Mechanical 15:
  lines w0.1: -0.5,0 0.5,0 ; 0,-0.5 0,0.5 ; -5.2,-5.2 -5.2,5.2 5.2,5.2 5.2,-5.2 -5.2,-5.2
3D body: height 1.6, standoff 0, extent -3.5,-3.5 3.5,3.5

## MHDR2X4 [mm] "Connector; Header; 4x2 Position"
pads (8):
  rect 1x1 hole 0.6: 1(0,0)
  round 1 hole 0.6: 2(0,1.27) 3(1.27,0) 4(1.27,1.27) 5(2.54,0) 6(2.54,1.27) 7(3.81,0) 8(3.81,1.27)
Top Overlay:
  lines w0.2: -0.9,-0.9 -0.9,2.17 4.71,2.17 4.71,-0.9 -0.9,-0.9
3D body: height 3.4, standoff 0, extent -1,-1 4.81,2.27

## MHDR2X5 [mm] "Connector; Header; 5x2 Position"
pads (10):
  rect 1x1 hole 0.6: 1(0,0)
  round 1 hole 0.6: 2(0,1.27) 3(1.27,0) 4(1.27,1.27) 5(2.54,0) 6(2.54,1.27) 7(3.81,0) 8(3.81,1.27) 9(5.08,0) 10(5.08,1.27)
Top Overlay:
  lines w0.2: -0.9,-0.9 5.98,-0.9 5.98,2.17 -0.9,2.17 -0.9,-0.9
3D body: height 3.4, standoff 0, extent -1,-1 6.08,2.27

## MP04A_N [mm] "SOT223, 4-Leads, Body 6.5x3.5mm, Pitch 2.3mm, Lead Span 7mm, IPC Medium Density"
height 1.8
pads (4):
  rect 2.4x1 smd: 1(-2.9,2.3) 2(-2.9,0) 3(-2.9,-2.3)
  rect 2.4x3.3 smd: 4(2.9,0)
Top Overlay:
  circle w0.25: c-2.9,3.35 r0.125
  lines w0.2: -1.4,-3.35 -1.4,3.35 1.4,3.35 1.4,-3.35 -1.4,-3.35
Mechanical 13:
  lines w0.1: -1.85,-3.35 -1.85,3.35 1.85,3.35 1.85,-3.35 -1.85,-3.35
Mechanical 15:
  lines w0.1: -0.5,0 0.5,0 ; 0,-0.5 0,0.5 ; -4.35,-3.6 -4.35,3.6 4.35,3.6 4.35,-3.6 -4.35,-3.6
3D body: height 1.8, standoff 0, extent -1.85,-3.35 1.85,3.35

## PUSHBTN [mm]
pads (4):
  rect 1.3x2.1 smd: 1(-0.001,0.011) 2(4.299,0.011) 3(-0.001,-9.089) 4(4.299,-9.089)
Top Overlay:
  circle w0.254: c-0.001,-1.989 r0.076
  circle w0.254: c2.149,-4.539 r1.75
  lines w0.127: -0.851,-1.52 5.149,-1.52 ; -0.851,-1.514 -0.851,-7.515 5.149,-7.515 5.149,-1.514
3D body: height 4, standoff 0, extent -0.85,-7.514 5.149,-1.521
3D body: height 4.3, standoff 0, extent 0.391,-6.297 3.907,-2.781

## PW014_N [mm] "TSOP, 14-Leads, Body 5x4.4mm, Pitch 0.65mm, IPC Medium Density"
height 1.2
pads (14):
  oval 1.7x0.35 smd: 1(-2.85,1.95) 2(-2.85,1.3) 3(-2.85,0.65) 4(-2.85,0) 5(-2.85,-0.65) 6(-2.85,-1.3) 7(-2.85,-1.95) 8(2.85,-1.95) 9(2.85,-1.3) 10(2.85,-0.65) 11(2.85,0) 12(2.85,0.65) 13(2.85,1.3) 14(2.85,1.95)
Top Overlay:
  circle w0.6: c-0.6,1.55 r0.3
  circle w0.25: c-2.85,2.675 r0.125
  lines w0.2: -1.6,-2.55 1.6,-2.55 1.6,2.55 -1.6,2.55 -1.6,-2.55
Mechanical 13:
  circle w0.1: c-1.35,1.65 r0.5
  lines w0.1: -2.25,-2.55 2.25,-2.55 2.25,2.55 -2.25,2.55 -2.25,-2.55
Mechanical 15:
  lines w0.1: -0.5,0 0.5,0 ; 0,-0.5 0,0.5 ; -3.95,-2.8 3.95,-2.8 3.95,2.8 -3.95,2.8 -3.95,-2.8
3D body: height 1.2, standoff 0, extent -2.25,-2.55 2.25,2.55

## SOIC-SN8_N [mm] "SOIC, 8-Leads, Body 4.9x3.8mm, Pitch 1.27mm, IPC Medium Density"
height 1.75
pads (8):
  oval 2.2x0.6 smd: 1(-2.4,1.905) 2(-2.4,0.635) 3(-2.4,-0.635) 4(-2.4,-1.905) 5(2.4,-1.905) 6(2.4,-0.635) 7(2.4,0.635) 8(2.4,1.905)
Top Overlay:
  circle w0.25: c-2.4,2.755 r0.125
  lines w0.2: -0.9,-2.5 0.9,-2.5 0.9,2.5 -0.9,2.5 -0.9,-2.5
Mechanical 13:
  circle w0.1: c-1.1,1.6 r0.5
  lines w0.1: -2,-2.5 2,-2.5 2,2.5 -2,2.5 -2,-2.5
Mechanical 15:
  lines w0.1: -0.5,0 0.5,0 ; 0,-0.5 0,0.5 ; -3.75,-2.75 3.75,-2.75 3.75,2.75 -3.75,2.75 -3.75,-2.75
3D body: height 1.75, standoff 0, extent -2,-2.5 2,2.5